# EAGLE library part 61205021721 (library Wire-to-Board (rev18a))
WR-BHD 2.54mm Male Angled Box Header, 50 Pins=>Code : Con_WTB_BHD_2.54_Male_THT_WS_61205021721 <http://katalog.we-online.de/media/thumbs2/eican/thb_Con_WTB_BHD_2.54_Male_THT_WS_6120xx21721_pf2.jpg> Details see: http://katalog.we-online.de/en/em/612_0xx_217_21 Created 2014-06-05, Karrer Zheng 2014 (C) Würth Elektronik
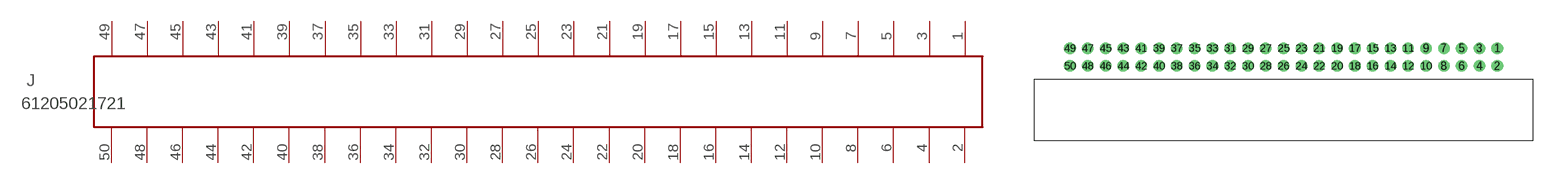
[diagram p194: symbol with the pads of 61205021721; footprint 61205021721]

Designator prefix J

## 61205021721  [61205021721]
1  50  pas
2  49  pas
3  48  pas
4  47  pas
5  46  pas
6  45  pas
7  44  pas
8  43  pas
9  42  pas
10  41  pas
11  40  pas
12  39  pas
13  38  pas
14  37  pas
15  36  pas
16  35  pas
17  34  pas
18  33  pas
19  32  pas
20  31  pas
21  30  pas
22  29  pas
23  28  pas
24  27  pas
25  26  pas
26  25  pas
27  24  pas
28  23  pas
29  22  pas
30  21  pas
31  20  pas
32  19  pas
33  18  pas
34  17  pas
35  16  pas
36  15  pas
37  14  pas
38  13  pas
39  12  pas
40  11  pas
41  10  pas
42  9  pas
43  8  pas
44  7  pas
45  6  pas
46  5  pas
47  4  pas
48  3  pas
49  2  pas
50  1  pas

## Footprint 61205021721 (pad centres in mm)
WR-BHD 2.54mm Male Angled Box Header, 50 Pins
drill 1.1: 1 31.75,1.27; 2 31.75,-1.27; 3 29.21,1.27; 4 29.21,-1.27; 5 26.67,1.27; 6 26.67,-1.27; 7 24.13,1.27; 8 24.13,-1.27; 9 21.59,1.27; 10 21.59,-1.27; 11 19.05,1.27; 12 19.05,-1.27; 13 16.51,1.27; 14 16.51,-1.27; 15 13.97,1.27; 16 13.97,-1.27; 17 11.43,1.27; 18 11.43,-1.27; 19 8.89,1.27; 20 8.89,-1.27; 21 6.35,1.27; 22 6.35,-1.27; 23 3.81,1.27; 24 3.81,-1.27; 25 1.27,1.27; 26 1.27,-1.27; 27 -1.27,1.27; 28 -1.27,-1.27; 29 -3.81,1.27; 30 -3.81,-1.27; 31 -6.35,1.27; 32 -6.35,-1.27; 33 -8.89,1.27; 34 -8.89,-1.27; 35 -11.43,1.27; 36 -11.43,-1.27; 37 -13.97,1.27; 38 -13.97,-1.27; 39 -16.51,1.27; 40 -16.51,-1.27; 41 -19.05,1.27; 42 -19.05,-1.27; 43 -21.59,1.27; 44 -21.59,-1.27; 45 -24.13,1.27; 46 -24.13,-1.27; 47 -26.67,1.27; 48 -26.67,-1.27; 49 -29.21,1.27; 50 -29.21,-1.27